# EAGLE library part MCMURDO-32 (library Educ-8)
McMurdo connector, 32 pins
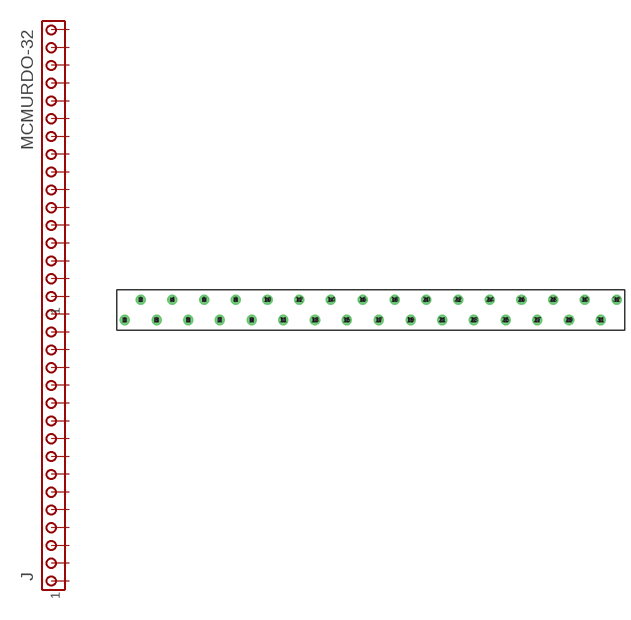
[diagram p2: symbol with the pads of 133-14-17; footprint 133-14-17]

Designator prefix J

## MCMURDO-32  [133-14-17]
1  1  pas
2  2  pas
3  3  pas
4  4  pas
5  5  pas
6  6  pas
7  7  pas
8  8  pas
9  9  pas
10  10  pas
11  11  pas
12  12  pas
13  13  pas
14  14  pas
15  15  pas
16  16  pas
17  17  pas
18  18  pas
19  19  pas
20  20  pas
21  21  pas
22  22  pas
23  23  pas
24  24  pas
25  25  pas
26  26  pas
27  27  pas
28  28  pas
29  29  pas
30  30  pas
31  31  pas
32  32  pas

## Footprint 133-14-17 (pad centres in mm)
McMurdo connector, 32 pins
drill 1.676: 1 -61.468,-2.54; 2 -57.506,2.54; 3 -53.543,-2.54; 4 -49.581,2.54; 5 -45.618,-2.54; 6 -41.656,2.54; 7 -37.694,-2.54; 8 -33.731,2.54; 9 -29.769,-2.54; 10 -25.806,2.54; 11 -21.844,-2.54; 12 -17.882,2.54; 13 -13.919,-2.54; 14 -9.957,2.54; 15 -5.994,-2.54; 16 -2.032,2.54; 17 2.032,-2.54; 18 5.994,2.54; 19 9.957,-2.54; 20 13.919,2.54; 21 17.882,-2.54; 22 21.844,2.54; 23 25.806,-2.54; 24 29.769,2.54; 25 33.731,-2.54; 26 37.694,2.54; 27 41.656,-2.54; 28 45.618,2.54; 29 49.581,-2.54; 30 53.543,2.54; 31 57.506,-2.54; 32 61.468,2.54